# Altium footprint library PCB - CONNECTOR - USB - TE 1932638-3 USB2.0A.PCBLIB: 1 footprints
Each footprint in its own frame and in the unit in brackets; x right, y up, seen from the top. Pads: shape width x height; smd on the part's side, far side on the other; paste and mask are expansions set on the pad; w line width, h text height; cw(c..) or ccw(c..) is an arc to the next point about the centre after c.
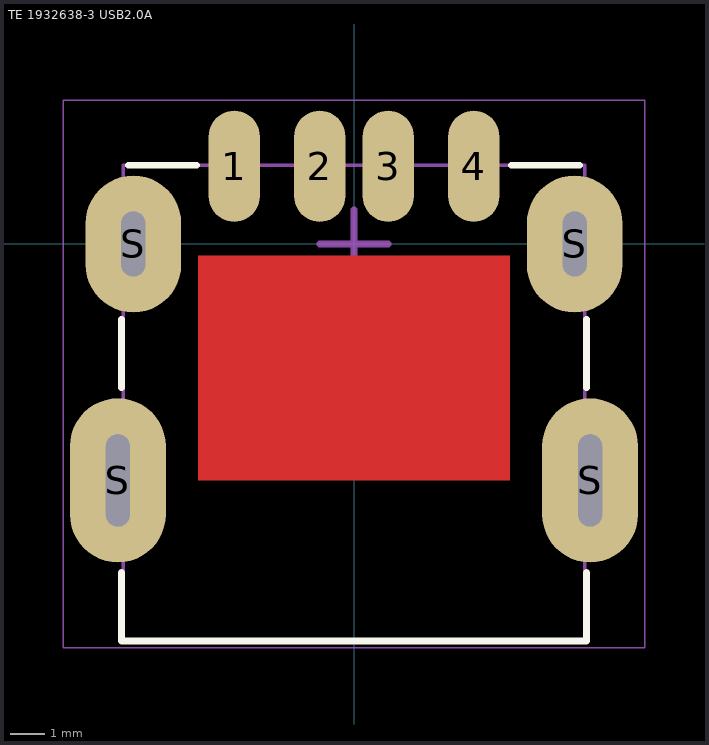
[diagram p0: the footprint, top view; thin cyan lines are the x and y axes]

## TE 1932638-3 USB2.0A [mm] "USB 2.0 Type A RCP 4 POS Solder RA SMD 4 Terminal 1 Port T/R"
height 7.1
pads (8):
  oval 1.5x3.25 smd: 1(-3.5,2.27) 2(-1,2.27) 3(1,2.27) 4(3.5,2.27)
  oval 2.8x4.8 hole 0.7 slot 2.7 at 90 deg: S(-6.9,-6.91) S(6.9,-6.91)
  oval 2.8x4 hole 0.7 slot 1.9 at 90 deg: S(-6.45,0) S(6.45,0)
Top Layer:
  pour cut-out: -4.55,-0.35 -4.55,-6.9 4.55,-6.9 4.55,-0.35
Top Overlay:
  lines w0.2: -6.8,-9.6 -6.8,-11.6 6.8,-11.6 6.8,-9.6 ; -6.8,-4.2 -6.8,-2.2 ; -6.6,2.3 -4.6,2.3 ; 4.6,2.3 6.6,2.3 ; 6.8,-4.2 6.8,-2.2
Mechanical 13:
  lines w0.1: -6.75,-11.6 -6.75,2.3 6.75,2.3 6.75,-11.6 -6.75,-11.6
Mechanical 15:
  lines w0.05: -8.5,-11.8 8.5,-11.8 8.5,4.2 -8.5,4.2 -8.5,-11.8
  lines w0.2: -1,0 1,0 ; 0,-1 0,1
3D body "TE - 1932638-3.step": height 7.64, standoff -1.22, extent -7.315,-11.6 7.315,3.34